# Altium schematic symbol library 2454985-3.SchLib: 1 symbol
Pins are listed as number, name and electrical type; pins without a type are passive.

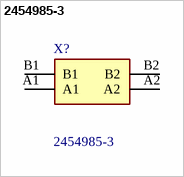
[diagram p0: symbol 2454985-3]

## 2454985-3
designator X?
DIP & SIP Switches, Switch, Gold Flash, Black Housing, PA9T, Auto-Insertable, 2 Switch, -40  85 C, DIP Switch, Alcoswitch DIP ADE; Manufacturer_Name: TE Connectivity; Geometry.Height: 4.85mm; Manufacturer_Part_Number: 2454985-3; Arrow Part Number: 2454985-3; Arrow Price/Stock: https://www.arrow.com/en/products/2454985-3/te-connectivity?region=nac; Datasheet Link: https://www.mouser.com/datasheet/2/418/3/NG_CS_1308111-1_SWITCHES_CORE_PROGRAM_CATALOG_0308-1234788.pdf
footprint 24549853
pins: A1, A2, B1, B2